# EAGLE library part RESISTOR_PACK_7 (library 326298_rev_a)
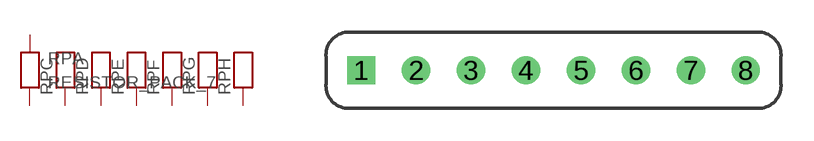
[diagram p26: symbol with the pads of RESISTOR_PACK_7; footprint RESISTOR_PACK_7]

Designator prefix RP; gates A=RP1 C=RPX D=RPX E=RPX F=RPX G=RPX H=RPX

## RESISTOR_PACK_7  [RESISTOR_PACK_7]
1  A:1  pas
2  A:2  pas
3  C:X  pas
4  D:X  pas
5  E:X  pas
6  F:X  pas
7  G:X  pas
8  H:X  pas

## Footprint RESISTOR_PACK_7 (pad centres in mm)
drill 0.8 square: 1 0,0
drill 0.8: 2 2.54,0; 3 5.08,0; 4 7.62,0; 5 10.16,0; 6 12.7,0; 7 15.24,0; 8 17.78,0